# EAGLE library part TRM-*-LT (library linx)
LT SERIES TRANSCEIVER MODULE bidirectional wireless transfer serial data Source: www.linxtechnologies.com .. TRM-xxx-LT_Data_Guide.pdf
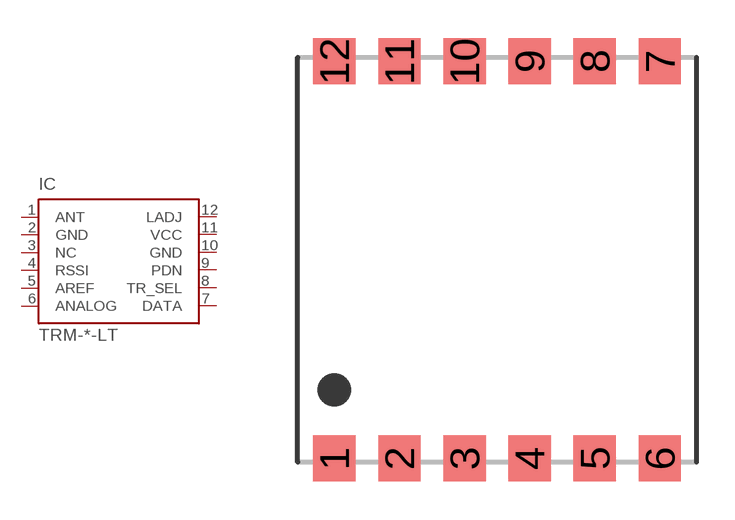
[diagram p4: symbol with the pads of TRM-XXX-LT; footprint TRM-XXX-LT]

Designator prefix IC

## TRM-315-LT, TRM-418-LT, TRM-433-LT  [TRM-XXX-LT]
1  ANT  pas
2  GND  pwr
3  NC  nc
4  RSSI  pas
5  AREF  pas
6  ANALOG  out
7  DATA  out
8  TR_SEL  in
9  PDN  in
10  GND  pwr
11  VCC  pwr
12  LADJ  pwr

## Footprint TRM-XXX-LT (pad centres in mm)
Source: TRM-xxx-LD_Data_Guide.pdf
smd 1.651 x 1.778: 1 -6.35,-7.747; 2 -3.81,-7.747; 3 -1.27,-7.747; 4 1.27,-7.747; 5 3.81,-7.747; 6 6.35,-7.747; 7 6.35,7.747; 8 3.81,7.747; 9 1.27,7.747; 10 -1.27,7.747; 11 -3.81,7.747; 12 -6.35,7.747